# Altium footprint library PTV09A4225FB203.PcbLib: 1 footprints
Each footprint in its own frame and in the unit in brackets; x right, y up, seen from the top. Pads: shape width x height; smd on the part's side, far side on the other; paste and mask are expansions set on the pad; w line width, h text height; cw(c..) or ccw(c..) is an arc to the next point about the centre after c.
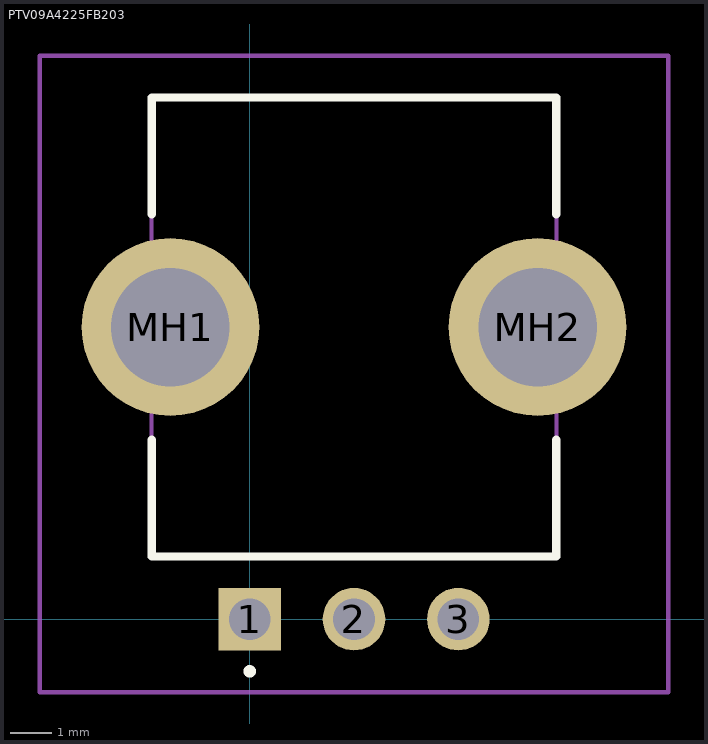
[diagram p0: the footprint, top view; thin cyan lines are the x and y axes]

## PTV09A4225FB203 [mm]
pads (5):
  rect 1.5x1.5 hole 1: 1(0,0)
  round 1.5 hole 1: 2(2.5,0) 3(5,0)
  round 4.26 hole 2.84: MH1(-1.9,7) MH2(6.9,7)
Top Overlay:
  lines w0.2: -2.35,4.3 -2.35,1.5 7.35,1.5 7.35,4.3 ; -2.35,9.7 -2.35,12.5 7.35,12.5 7.35,9.7 ; 0,-1.3 cw(c0,-1.25) 0,-1.2 ; 0,-1.3 0,-1.3 ; 0,-1.3 ccw(c0,-1.25) 0,-1.2 ; 0,-1.3 cw(c0,-1.25) 0,-1.2 ; 0,-1.2 0,-1.2 ; 0,-1.2 0,-1.2
Mechanical 15:
  lines w0.1: -2.35,1.5 7.35,1.5 7.35,12.5 -2.35,12.5 -2.35,1.5
Mechanical 20:
  lines w0.1: -5.03,-1.75 10.03,-1.75 10.03,13.5 -5.03,13.5 -5.03,-1.75